# EAGLE library part 638263222007 (library Wurth_Connectors_WR-FAST)
WR-FAST 5.08 mm THT Male Header Vertical Blade 6.3 KIND PROPERTIES Pitch 5.08 mm Gender Male MATERIAL PROPERTIES Insulator Material PC Insulator Flammability Rating UL94 V-0 Insulator Color Black Contact Material Steel Contact Plating Tin Contact Type Stamped GENERAL INFORMATION Operating Temperature -30 up to +120 °C Working Voltage 300 V (AC) Withstanding Voltage 1600 V (AC) Contact Resistance 20 mΩ RISO 5 MΩ IR 16 A CERTIFICATION cULus Approval E150931 PACKAGING PROPERTIES Packaging Box <https://www.we-online.com/catalog/media/o166977v209%20Family_WR-FAST_638263222003.jpg> Details see: https://www.we-online.com/catalog/en/FAST_5_08_THT_MALE_VERTICAL_6382632220XX/ Updated by Ella Wu 2020-08-11 2020(C) Wurth Elektronik
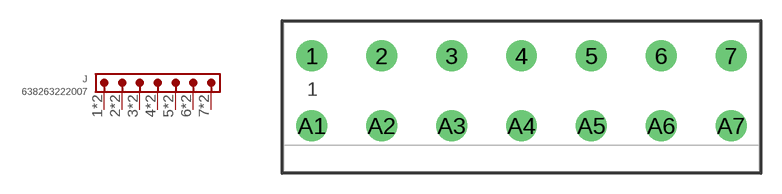
[diagram p11: symbol with the pads of 638263222007; footprint 638263222007]

Designator prefix J

## 638263222007 (CONTACT-RESISTANCE: 20mOhm; DATASHEET-URL: https://www.we-online.com/catalog/datasheet/638263222007.pdf; GENDER: Male; IR: 16A; MOUNT: THT; PART-NUMBER: 638263222007; PINS: 7; PITCH: 5.08mm; TYPE: Vertical; VALUE: 638263222007; WORKING-VOLTAGE: 300V(AC))  [638263222007]
1  1  pas
2  2  pas
3  3  pas
4  4  pas
5  5  pas
6  6  pas
7  7  pas
A1  1  pas
A2  2  pas
A3  3  pas
A4  4  pas
A5  5  pas
A6  6  pas
A7  7  pas

## Footprint 638263222007 (pad centres in mm)
WR-FAST 5.08 mm THT Male Header Vertical Blade 6.3 7pins
drill 1.5: 1 -15.24,2.54; 2 -10.16,2.54; 3 -5.08,2.54; 4 0,2.54; 5 5.08,2.54; 6 10.16,2.54; 7 15.24,2.54; A1 -15.24,-2.54; A2 -10.16,-2.54; A3 -5.08,-2.54; A4 0,-2.54; A5 5.08,-2.54; A6 10.16,-2.54; A7 15.24,-2.54